# Altium footprint library smartwatch.PcbLib: 32 footprints (part 2 of 2)
Each footprint in its own frame and in the unit in brackets; x right, y up, seen from the top. Pads: shape width x height; smd on the part's side, far side on the other; paste and mask are expansions set on the pad; w line width, h text height; cw(c..) or ccw(c..) is an arc to the next point about the centre after c.
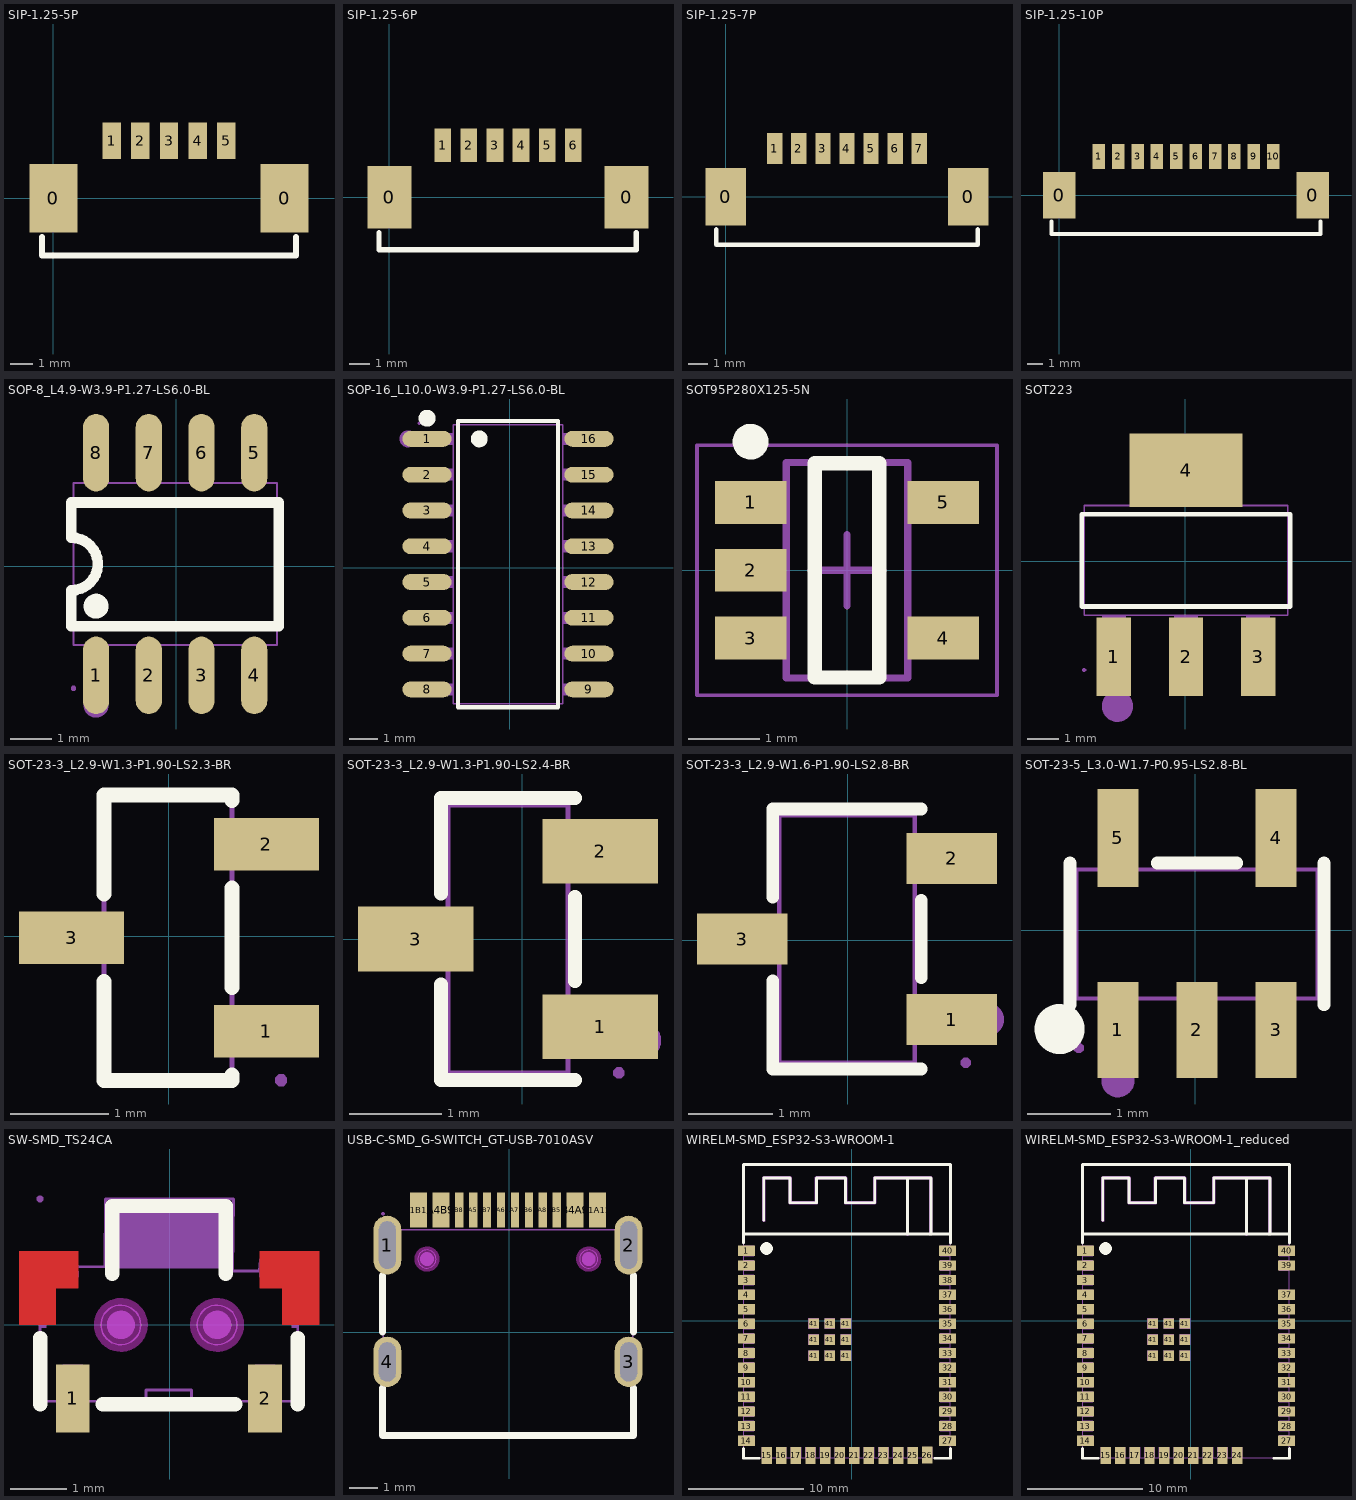
[diagram p1: the footprints below, top view; thin cyan lines are the x and y axes]

## SIP-1.25-5P [mm]
pads (7):
  rect 2.1x3 smd: 0(0,0) 0(10.1,0.001)
  rect 0.8x1.6 smd: 1(2.55,2.5) 2(3.8,2.5) 3(5.05,2.5) 4(6.3,2.5) 5(7.55,2.5)
Top Overlay:
  lines w0.254: -0.5,-1.7 -0.5,-2.1 -0.5,-2.5 1.5,-2.5 7.35,-2.5 9.35,-2.5 10.6,-2.5 10.6,-2.099 10.6,-1.699

## SIP-1.25-6P [mm]
pads (8):
  rect 2.1x3 smd: 0(0,0) 0(11.35,0)
  rect 0.8x1.6 smd: 1(2.55,2.5) 2(3.8,2.5) 3(5.05,2.5) 4(6.3,2.5) 5(7.55,2.5) 6(8.8,2.5)
Top Overlay:
  lines w0.254: -0.5,-1.7 -0.5,-2.1 -0.5,-2.5 1.5,-2.5 7.35,-2.5 9.35,-2.5 11.803,-2.5 11.803,-2.1 11.803,-1.7

## SIP-1.25-7P [mm]
pads (9):
  rect 2.1x3 smd: 0(0,0) 0(12.6,0)
  rect 0.8x1.6 smd: 1(2.55,2.5) 2(3.8,2.5) 3(5.05,2.5) 4(6.3,2.5) 5(7.55,2.5) 6(8.8,2.5) 7(10.05,2.5)
Top Overlay:
  lines w0.254: -0.5,-1.7 -0.5,-2.1 -0.5,-2.5 1.5,-2.5 11.3,-2.5 ; 11.1,-2.5 13.1,-2.5 13.1,-2.1 13.1,-1.7

## SIP-1.25-10P [mm]
pads (12):
  rect 2.1x3 smd: 0(0,0) 0(16.35,0)
  rect 0.8x1.6 smd: 1(2.55,2.5) 2(3.8,2.5) 3(5.05,2.5) 4(6.3,2.5) 5(7.55,2.5) 6(8.8,2.5) 7(10.05,2.5) 8(11.3,2.5) 9(12.55,2.5) 10(13.8,2.5)
Top Overlay:
  lines w0.254: -0.5,-1.7 -0.5,-2.1 -0.5,-2.5 1.5,-2.5 14.85,-2.5 16.85,-2.5 16.85,-2.1 16.85,-1.7

## SOP-8_L4.9-W3.9-P1.27-LS6.0-BL [mm]
pads (8):
  oval 0.63x1.865 smd: 1(-1.935,-2.624) 2(-0.665,-2.624) 3(0.605,-2.624) 4(1.875,-2.624) 5(1.875,2.741) 6(0.605,2.741) 7(-0.665,2.741) 8(-1.935,2.741)
Top Overlay:
  circle w0.3: c-1.935,-0.957 r0.15
  lines w0.254: -2.53,-1.439 2.47,-1.439 2.47,1.541 -2.53,1.541 -2.529,0.694 cw(c-2.53,0.059) -2.53,-0.576 -2.53,-1.439
Mechanical 6:
  circle w0.3: c-1.935,-3.341 r0.15
Mechanical 15:
  region: 2.085,-2.173 1.665,-2.173 1.665,-1.883 2.085,-1.883
  region: 0.815,-2.173 0.395,-2.173 0.395,-1.883 0.815,-1.883
  region: -0.455,-2.173 -0.875,-2.173 -0.875,-1.883 -0.455,-1.883
  region: -1.725,-2.173 -2.145,-2.173 -2.145,-1.883 -1.725,-1.883
  region: -2.145,2.291 -1.725,2.291 -1.725,2.001 -2.145,2.001
  region: -0.875,2.291 -0.455,2.291 -0.455,2.001 -0.875,2.001
  region: 0.395,2.291 0.815,2.291 0.815,2.001 0.395,2.001
  region: 1.665,2.291 2.085,2.291 2.085,2.001 1.665,2.001
  region: -2.145,-2.941 -2.145,-2.106 -1.725,-2.106 -1.725,-2.941
  region: -0.875,-2.941 -0.875,-2.106 -0.455,-2.106 -0.455,-2.941
  region: 0.395,-2.941 0.395,-2.106 0.815,-2.106 0.815,-2.941
  region: 1.665,-2.941 1.665,-2.106 2.085,-2.106 2.085,-2.941
  region: -2.145,2.224 -2.145,3.059 -1.725,3.059 -1.725,2.224
  region: -0.875,2.224 -0.875,3.059 -0.455,3.059 -0.455,2.224
  region: 0.395,2.224 0.395,3.059 0.815,3.059 0.815,2.224
  region: 1.665,2.224 1.665,3.059 2.085,3.059 2.085,2.224
  region: -2.42,-2.941 -2.42,-2.916 -2.455,-2.881 -2.505,-2.881 -2.54,-2.916 -2.54,-2.941 -2.54,-2.966 -2.505,-3.001 -2.455,-3.001 -2.42,-2.966
  lines w0.051: -2.48,-1.891 2.42,-1.891 2.42,2.009 -2.48,2.009 -2.48,-1.891

## SOP-16_L10.0-W3.9-P1.27-LS6.0-BL [mm]
pads (16):
  oval 1.745x0.56 smd: 1(-2.937,4.579) 2(-2.937,3.309) 3(-2.937,2.039) 4(-2.937,0.769) 5(-2.937,-0.501) 6(-2.937,-1.771) 7(-2.937,-3.041) 8(-2.937,-4.311) 9(2.807,-4.311) 10(2.807,-3.041) 11(2.807,-1.771) 12(2.807,-0.501) 13(2.807,0.769) 14(2.807,2.039) 15(2.807,3.309) 16(2.807,4.579)
Top Overlay:
  circle w0.3: c-1.084,4.579 r0.15
  circle w0.3: c-2.937,5.311 r0.15
  lines w0.152: -1.836,-4.943 1.706,-4.943 1.706,5.21 -1.836,5.21 -1.836,-4.943
Mechanical 6:
  circle w0.3: c-3.615,4.579 r0.15
Mechanical 15:
  drawing of 37 lines, arcs and shapes, not listed

## SOT95P280X125-5N [mm] "SOT23, 5-Leads, Body 2.92x2.80mm, Pitch 0.95mm, IPC Medium Density"
height 1.25
pads (5):
  rect 1x0.6 smd: 1(-1.35,0.95) 2(-1.35,0) 3(-1.35,-0.95) 4(1.35,-0.95) 5(1.35,0.95)
Top Overlay:
  circle w0.25: c-1.35,1.8 r0.125
  lines w0.2: -0.45,-1.5 -0.45,1.5 0.45,1.5 0.45,-1.5 -0.45,-1.5
Mechanical 13:
  lines w0.1: -0.85,-1.51 0.85,-1.51 0.85,1.51 -0.85,1.51 -0.85,-1.51
Mechanical 15:
  lines w0.05: -2.1,-1.75 2.1,-1.75 2.1,1.75 -2.1,1.75 -2.1,-1.75
  lines w0.1: -0.5,0 0.5,0 ; 0,-0.5 0,0.5
3D body: height 1.25, standoff 0.1, extent -0.85,-1.51 0.85,1.51

## SOT223 [mm]
pads (4):
  rect 1.1x2.5 smd: 1(-2.276,-3.046) 2(0.024,-3.046) 3(2.324,-3.046)
  rect 3.6x2.34 smd: 4(0.024,2.894)
Top Overlay:
  lines w0.152: -3.302,-1.447 -3.302,1.495 3.35,1.495 3.35,-1.447 -3.302,-1.447
Mechanical 6:
  circle w0.5: c-2.163,-4.628 r0.25
Mechanical 15:
  region: -1.476,2.784 1.524,2.784 1.524,1.764 -1.476,1.764
  region: -2.651,-2.726 -1.901,-2.726 -1.901,-3.476 -2.651,-3.476
  region: -2.651,-1.716 -1.901,-1.716 -1.901,-2.736 -2.651,-2.736
  region: -0.351,-2.726 0.399,-2.726 0.399,-3.476 -0.351,-3.476
  region: -0.351,-1.716 0.399,-1.716 0.399,-2.736 -0.351,-2.736
  region: 1.949,-2.726 2.699,-2.726 2.699,-3.476 1.949,-3.476
  region: 1.949,-1.716 2.699,-1.716 2.699,-2.736 1.949,-2.736
  region: -1.476,3.524 1.524,3.524 1.524,2.774 -1.476,2.774
  region: -3.226,-3.536 -3.201,-3.536 -3.166,-3.501 -3.166,-3.451 -3.201,-3.416 -3.226,-3.416 -3.251,-3.416 -3.286,-3.451 -3.286,-3.501 -3.251,-3.536
  lines w0.051: -3.226,-1.726 -3.226,1.774 3.274,1.774 3.274,-1.726 -3.226,-1.726

## SOT-23-3_L2.9-W1.3-P1.90-LS2.3-BR [mm]
pads (3):
  rect 1.07x0.532 smd: 1(0.991,-0.964) 2(0.991,0.936) 3(-0.989,-0.014)
Top Overlay:
  lines w0.152: -0.659,-0.46 -0.659,-1.464 0.641,-1.464 0.641,-1.41 ; -0.659,0.432 -0.659,1.436 0.641,1.436 0.641,1.382 ; 0.641,-0.518 0.641,0.49
Mechanical 6:
  circle w0.2: c1.131,-1.014 r0.1
Mechanical 15:
  region: 0.731,0.736 0.731,1.136 0.601,1.136 0.601,0.736
  region: 0.732,-1.164 0.732,-0.764 0.602,-0.764 0.602,-1.164
  region: -0.729,0.186 -0.729,-0.214 -0.599,-0.214 -0.599,0.186
  region: 0.691,-1.164 0.691,-0.764 1.141,-0.764 1.141,-1.164
  region: 0.691,0.736 0.691,1.136 1.141,1.136 1.141,0.736
  region: -0.709,-0.214 -0.709,0.186 -1.159,0.186 -1.159,-0.214
  region: 1.201,-1.464 1.201,-1.439 1.166,-1.404 1.116,-1.404 1.081,-1.439 1.081,-1.464 1.081,-1.489 1.116,-1.524 1.166,-1.524 1.201,-1.489
  lines w0.051: -0.659,-1.464 -0.659,1.436 0.641,1.436 0.641,-1.464 -0.659,-1.464

## SOT-23-3_L2.9-W1.3-P1.90-LS2.4-BR [mm]
pads (3):
  rect 1.25x0.7 smd: 1(0.847,-0.948) 2(0.847,0.952) 3(-1.153,0.002)
Top Overlay:
  lines w0.152: -0.879,-0.492 -0.879,-1.524 0.573,-1.524 ; -0.879,0.497 -0.879,1.528 0.573,1.528 ; 0.573,-0.453 0.573,0.458
Mechanical 6:
  circle w0.2: c1.307,-1.098 r0.1
Mechanical 15:
  region: -1.353,-0.213 -1.353,0.217 -1.053,0.217 -1.053,-0.213
  region: -1.063,-0.213 -1.063,0.217 -0.793,0.217 -0.793,-0.213
  region: 0.747,-1.163 0.747,-0.733 1.047,-0.733 1.047,-1.163
  region: 0.487,-1.163 0.487,-0.733 0.757,-0.733 0.757,-1.163
  region: 0.747,0.737 0.747,1.167 1.047,1.167 1.047,0.737
  region: 0.487,0.737 0.487,1.167 0.757,1.167 0.757,0.737
  region: 1.107,-1.448 1.106,-1.423 1.071,-1.389 1.023,-1.389 0.988,-1.423 0.987,-1.448 0.988,-1.472 1.023,-1.506 1.071,-1.506 1.106,-1.472
  lines w0.051: -0.803,-1.448 0.497,-1.448 0.497,1.452 -0.803,1.452 -0.803,-1.448

## SOT-23-3_L2.9-W1.6-P1.90-LS2.8-BR [mm] "LDO 输入6V 输出3.3V 300mA"
pads (3):
  rect 1.07x0.6 smd: 1(1.227,-0.938) 2(1.227,0.962) 3(-1.243,0.012)
Top Overlay:
  lines w0.152: -0.884,-0.482 -0.884,-1.524 0.868,-1.524 ; -0.884,0.507 -0.884,1.548 0.868,1.548 ; 0.868,-0.443 0.868,0.468
Mechanical 6:
  circle w0.2: c1.643,-0.938 r0.1
Mechanical 15:
  region: -0.968,-0.188 -0.968,0.212 -0.798,0.212 -0.798,-0.188
  region: -0.958,-0.188 -0.958,0.212 -1.408,0.212 -1.408,-0.188
  region: 0.782,0.762 0.782,1.162 0.952,1.162 0.952,0.762
  region: 0.942,0.762 0.942,1.162 1.392,1.162 1.392,0.762
  region: 0.782,-1.138 0.782,-0.738 0.952,-0.738 0.952,-1.138
  region: 0.942,-1.138 0.942,-0.738 1.392,-0.738 1.392,-1.138
  region: 1.452,-1.448 1.452,-1.423 1.417,-1.388 1.367,-1.388 1.332,-1.423 1.332,-1.448 1.332,-1.473 1.367,-1.508 1.417,-1.508 1.452,-1.473
  lines w0.051: -0.808,-1.448 0.792,-1.448 0.792,1.472 -0.808,1.472 -0.808,-1.448

## SOT-23-5_L3.0-W1.7-P0.95-LS2.8-BL [mm]
pads (5):
  rect 0.49x1.157 smd: 1(-0.927,-1.196) 2(0.023,-1.196) 3(0.973,-1.196)
  rect 0.49x1.175 smd: 4(0.973,1.111) 5(-0.927,1.111)
Top Overlay:
  circle w0.3: c-1.628,-1.185 r0.15
  lines w0.152: -1.503,-0.894 -1.503,0.809 ; -0.453,0.809 0.5,0.809 ; 1.549,-0.894 1.549,0.809
Mechanical 6:
  circle w0.2: c-0.927,-1.805 r0.1
Mechanical 15:
  region: -1.102,-1.442 -1.102,-1.042 -0.752,-1.042 -0.752,-1.442
  region: -1.102,-1.052 -1.102,-0.782 -0.752,-0.782 -0.752,-1.052
  region: -0.152,-1.442 -0.152,-1.042 0.198,-1.042 0.198,-1.442
  region: -0.152,-1.052 -0.152,-0.782 0.198,-0.782 0.198,-1.052
  region: 0.798,-1.442 0.798,-1.042 1.148,-1.042 1.148,-1.442
  region: 0.798,-1.052 0.798,-0.782 1.148,-0.782 1.148,-1.052
  region: 0.798,0.958 0.798,1.358 1.148,1.358 1.148,0.958
  region: 0.798,0.698 0.798,0.968 1.148,0.968 1.148,0.698
  region: -1.102,0.958 -1.102,1.358 -0.752,1.358 -0.752,0.958
  region: -1.102,0.698 -1.102,0.968 -0.752,0.968 -0.752,0.698
  region: -1.337,-1.412 -1.338,-1.388 -1.373,-1.354 -1.422,-1.354 -1.456,-1.388 -1.457,-1.412 -1.456,-1.437 -1.421,-1.471 -1.372,-1.471 -1.338,-1.437
  lines w0.051: -1.427,-0.817 -1.427,0.733 1.473,0.733 1.473,-0.817 -1.427,-0.817

## SW-SMD_TS24CA [mm] "4.55*1.8*3.5mm 卧贴 轻触开关"
pads (2):
  rect 0.6x1.2 smd: 1(-1.717,-1.305) 2(1.683,-1.305)
Top Layer:
  region: 2.633,-0.005 1.983,-0.005 1.983,0.645 1.583,0.645 1.583,1.295 2.633,1.295
  region: -1.617,0.645 -2.017,0.645 -2.017,-0.005 -2.667,-0.005 -2.667,1.295 -1.617,1.295
Top Overlay:
  lines w0.254: -2.294,-1.405 -2.294,-0.236 ; -1.186,-1.405 -0.906,-1.405 0.872,-1.405 1.152,-1.405 ; -1.017,0.895 -1.017,2.095 0.983,2.095 0.983,0.895 ; 2.258,-1.405 2.258,-0.236
Keep-Out Layer:
  board cut-out: -0.517,-0.005 -0.518,0.064 -0.572,0.191 -0.67,0.288 -0.798,0.341 -0.936,0.341 -1.064,0.288 -1.162,0.191 -1.216,0.064 -1.217,-0.005 -1.216,-0.074 -1.162,-0.201 -1.064,-0.298 -0.936,-0.351 -0.798,-0.351 -0.67,-0.298 -0.572,-0.201 -0.518,-0.074
  board cut-out: 1.183,-0.005 1.182,0.064 1.128,0.191 1.03,0.288 0.902,0.341 0.764,0.341 0.636,0.288 0.538,0.191 0.484,0.064 0.483,-0.005 0.484,-0.074 0.538,-0.201 0.636,-0.298 0.764,-0.351 0.902,-0.351 1.03,-0.298 1.128,-0.201 1.182,-0.074
Keep-Out Layer:
  circle w0.025: c-0.867,-0.005 r0.35
  circle w0.254: c-0.867,-0.005 r0.35
  circle w0.025: c0.833,-0.005 r0.35
  circle w0.254: c0.833,-0.005 r0.35
Mechanical 1:
  circle w0.025: c-0.867,-0.005 r0.35
  circle w0.025: c0.833,-0.005 r0.35
Mechanical 6:
  circle w0.25: c0.833,-0.005 r0.125
  circle w0.25: c-0.867,-0.005 r0.125
  region: -1.033,0.998 -1.033,2.141 0.999,2.141 0.999,0.998
Mechanical 15:
  region: -2.237,2.222 -2.238,2.246 -2.273,2.28 -2.321,2.28 -2.356,2.246 -2.357,2.222 -2.356,2.198 -2.321,2.165 -2.273,2.165 -2.238,2.198
  region: 1.858,-1.455 1.508,-1.455 1.508,-0.705 1.858,-0.705
  region: -1.542,-1.455 -1.892,-1.455 -1.892,-0.705 -1.542,-0.705
  region: 2.258,-0.055 2.258,0.945 1.583,0.945 1.583,0.835 2.148,0.835 2.148,-0.055
  region: -2.292,-0.055 -2.292,0.945 -1.617,0.945 -1.617,0.835 -2.182,0.835 -2.182,-0.055
  lines w0.051: -2.297,1.021 -1.145,1.024 -1.141,2.222 1.121,2.222 1.11,0.948 1.577,0.945 1.598,1.145 1.859,1.146 1.88,0.947 2.258,0.944 2.257,-1.357 2.128,-1.354 1.877,-1.355 1.877,-1.455 1.478,-1.455 1.478,-1.355 0.378,-1.355 0.378,-1.155 -0.423,-1.154 -0.424,-1.354 -0.423,-1.354 -1.523,-1.355 -1.523,-1.454 -1.921,-1.454 -1.922,-1.355 -2.292,-1.355 -2.297,1.021

## USB-C-SMD_G-SWITCH_GT-USB-7010ASV [mm]
pads (16):
  oval 1x2.1 hole 0.6 slot 1.7 at 90 deg paste-2539.97 mask+0.05: 1(-4.357,3.127) 2(4.283,3.127)
  oval 1x1.8 hole 0.6 slot 1.4 at 90 deg paste-2539.97 mask+0.05: 3(4.283,-1.053) 4(-4.357,-1.053)
  rect 0.6x1.24 smd paste-100 mask+0.05: A1B12(-3.237,4.382) A4B9(-2.437,4.382) B1A12(3.163,4.382) B4A9(2.363,4.382)
  rect 0.3x1.24 smd paste-100 mask+0.05: A5(-1.287,4.382) A6(-0.287,4.382) A7(0.213,4.382) A8(1.213,4.382) B5(1.713,4.382) B6(0.713,4.382) B7(-0.787,4.382) B8(-1.787,4.382)
Top Overlay:
  lines w0.254: -4.537,-1.992 -4.537,-3.683 4.463,-3.683 4.463,-1.992 ; -4.537,0.026 -4.537,2.038 ; 4.463,0.026 4.463,2.038
Top Paste:
  drawing of 16 lines, arcs and shapes, not listed
Keep-Out Layer:
  board cut-out: 3.178,2.627 3.178,2.692 3.128,2.81 3.036,2.901 2.917,2.95 2.789,2.95 2.67,2.901 2.578,2.81 2.528,2.692 2.528,2.627 2.528,2.563 2.578,2.444 2.67,2.353 2.789,2.304 2.917,2.304 3.036,2.353 3.128,2.444 3.178,2.563
  board cut-out: -2.612,2.627 -2.612,2.692 -2.662,2.81 -2.753,2.901 -2.873,2.95 -3.001,2.95 -3.12,2.901 -3.212,2.81 -3.261,2.692 -3.262,2.627 -3.261,2.563 -3.212,2.444 -3.12,2.353 -3.001,2.304 -2.872,2.304 -2.753,2.353 -2.662,2.444 -2.612,2.563
Keep-Out Layer:
  circle w0.025: c2.853,2.627 r0.325
  circle w0.254: c2.853,2.627 r0.325
  circle w0.025: c-2.937,2.627 r0.325
  circle w0.254: c-2.937,2.627 r0.325
Mechanical 1:
  circle w0.025: c2.853,2.627 r0.325
  circle w0.025: c-2.937,2.627 r0.325
Mechanical 6:
  circle w0.25: c2.853,2.627 r0.125
  circle w0.25: c-2.937,2.627 r0.125
Mechanical 15:
  region: -4.447,4.247 -4.448,4.271 -4.483,4.305 -4.531,4.305 -4.566,4.271 -4.567,4.247 -4.566,4.223 -4.531,4.189 -4.483,4.189 -4.448,4.223
  region: -1.907,4.882 -1.667,4.882 -1.667,4.082 -1.907,4.082
  region: -1.407,4.882 -1.167,4.882 -1.167,4.082 -1.407,4.082
  region: -0.907,4.882 -0.667,4.882 -0.667,4.082 -0.907,4.082
  region: -0.407,4.882 -0.167,4.882 -0.167,4.082 -0.407,4.082
  region: 0.093,4.882 0.333,4.882 0.333,4.082 0.093,4.082
  region: 0.593,4.882 0.833,4.882 0.833,4.082 0.593,4.082
  region: 1.093,4.882 1.333,4.882 1.333,4.082 1.093,4.082
  region: 1.593,4.882 1.833,4.882 1.833,4.082 1.593,4.082
  region: 2.133,4.882 2.593,4.882 2.593,4.082 2.133,4.082
  region: 2.933,4.882 3.393,4.882 3.393,4.082 2.933,4.082
  region: -2.667,4.882 -2.207,4.882 -2.207,4.082 -2.667,4.082
  region: -3.467,4.882 -3.007,4.882 -3.007,4.082 -3.467,4.082
  region: 4.133,3.677 4.433,3.677 4.433,2.577 4.133,2.577
  region: -4.507,3.677 -4.207,3.677 -4.207,2.577 -4.507,2.577
  region: 4.133,-0.653 4.433,-0.653 4.433,-1.453 4.133,-1.453
  region: -4.507,-0.653 -4.207,-0.653 -4.207,-1.453 -4.507,-1.453
  lines w0.051: -4.507,-3.683 -4.507,3.667 4.433,3.667 4.433,-3.683 -4.507,-3.683

## WIRELM-SMD_ESP32-S3-WROOM-1 [mm] "通用型Wi-Fi+低功耗蓝牙MCU模组"
pads (49):
  rect 1.5x0.9 smd paste+0 mask+0.05: 1(-9.156,6.094) 2(-9.156,4.824) 3(-9.156,3.554) 4(-9.156,2.284) 5(-9.156,1.014) 6(-9.156,-0.256) 7(-9.156,-1.526) 8(-9.156,-2.796) 9(-9.156,-4.066) 10(-9.156,-5.336) 11(-9.156,-6.606) 12(-9.156,-7.876) 13(-9.156,-9.146) 14(-9.156,-10.416) 27(8.344,-10.416) 28(8.344,-9.146) 29(8.344,-7.876) 30(8.344,-6.606) 31(8.344,-5.336) 32(8.344,-4.066) 33(8.344,-2.796) 34(8.344,-1.526) 35(8.344,-0.256) 36(8.344,1.014) 37(8.344,2.284) 38(8.344,3.554) 39(8.344,4.824) 40(8.344,6.094)
  rect 0.9x1.5 smd paste+0 mask+0.05: 15(-7.391,-11.696) 16(-6.121,-11.696) 17(-4.851,-11.696) 18(-3.581,-11.696) 19(-2.311,-11.696) 20(-1.041,-11.696) 21(0.229,-11.696) 22(1.499,-11.696) 23(2.769,-11.696) 24(4.039,-11.696) 25(5.309,-11.696) 26(6.579,-11.666)
  rect 0.9x0.9 smd: 41(-3.306,-3.026) 41(-3.306,-1.626) 41(-3.306,-0.226) 41(-1.906,-3.026) 41(-1.906,-1.626) 41(-1.906,-0.226) 41(-0.506,-3.026) 41(-0.506,-1.626) 41(-0.506,-0.226)
Top Overlay:
  region: -7.935,6.299 -7.935,6.404 -7.854,6.598 -7.705,6.747 -7.511,6.828 -7.301,6.828 -7.107,6.747 -6.958,6.598 -6.877,6.404 -6.877,6.299 -6.877,6.194 -6.958,6 -7.107,5.851 -7.301,5.77 -7.511,5.77 -7.705,5.851 -7.854,6 -7.935,6.194
  lines w0.254: -9.406,-11.097 -9.406,-11.945 -8.072,-11.945 ; -9.406,6.775 -9.406,13.594 8.594,13.594 ; -9.406,7.554 8.611,7.554 ; -7.645,8.756 -7.645,12.439 -5.359,12.439 -5.359,10.28 -3.073,10.28 -3.073,12.439 -0.533,12.439 -0.533,10.28 2.007,10.28 2.007,12.439 4.859,12.439 4.859,7.554 ; 4.656,12.439 6.891,12.439 6.891,7.554 ; 7.26,-11.945 8.611,-11.945 8.611,-11.097 ; 8.611,6.775 8.611,13.582
Mechanical 6:
  drawing of 2 lines, arcs and shapes, not listed
Mechanical 15:
  drawing of 54 lines, arcs and shapes, not listed

## WIRELM-SMD_ESP32-S3-WROOM-1_reduced [mm] "通用型Wi-Fi+低功耗蓝牙MCU模组"
pads (46):
  rect 1.5x0.9 smd paste+0 mask+0.05: 1(-9.156,6.094) 2(-9.156,4.824) 3(-9.156,3.554) 4(-9.156,2.284) 5(-9.156,1.014) 6(-9.156,-0.256) 7(-9.156,-1.526) 8(-9.156,-2.796) 9(-9.156,-4.066) 10(-9.156,-5.336) 11(-9.156,-6.606) 12(-9.156,-7.876) 13(-9.156,-9.146) 14(-9.156,-10.416) 27(8.344,-10.416) 28(8.344,-9.146) 29(8.344,-7.876) 30(8.344,-6.606) 31(8.344,-5.336) 32(8.344,-4.066) 33(8.344,-2.796) 34(8.344,-1.526) 35(8.344,-0.256) 36(8.344,1.014) 37(8.344,2.284) 39(8.344,4.824) 40(8.344,6.094)
  rect 0.9x1.5 smd paste+0 mask+0.05: 15(-7.391,-11.696) 16(-6.121,-11.696) 17(-4.851,-11.696) 18(-3.581,-11.696) 19(-2.311,-11.696) 20(-1.041,-11.696) 21(0.229,-11.696) 22(1.499,-11.696) 23(2.769,-11.696) 24(4.039,-11.696)
  rect 0.9x0.9 smd: 41(-3.306,-3.026) 41(-3.306,-1.626) 41(-3.306,-0.226) 41(-1.906,-3.026) 41(-1.906,-1.626) 41(-1.906,-0.226) 41(-0.506,-3.026) 41(-0.506,-1.626) 41(-0.506,-0.226)
Top Overlay:
  region: -7.935,6.299 -7.935,6.404 -7.854,6.598 -7.705,6.747 -7.511,6.828 -7.301,6.828 -7.107,6.747 -6.958,6.598 -6.877,6.404 -6.877,6.299 -6.877,6.194 -6.958,6 -7.107,5.851 -7.301,5.77 -7.511,5.77 -7.705,5.851 -7.854,6 -7.935,6.194
  lines w0.254: -9.406,-11.097 -9.406,-11.945 -8.072,-11.945 ; -9.406,6.775 -9.406,13.594 8.594,13.594 ; -9.406,7.554 8.611,7.554 ; -7.645,8.756 -7.645,12.439 -5.359,12.439 -5.359,10.28 -3.073,10.28 -3.073,12.439 -0.533,12.439 -0.533,10.28 2.007,10.28 2.007,12.439 4.859,12.439 4.859,7.554 ; 4.656,12.439 6.891,12.439 6.891,7.554 ; 7.26,-11.945 8.611,-11.945 8.611,-11.097 ; 8.611,6.775 8.611,13.582
Mechanical 6:
  drawing of 2 lines, arcs and shapes, not listed
Mechanical 15:
  drawing of 51 lines, arcs and shapes, not listed